# EAGLE library part MAX1771 (library 000001)
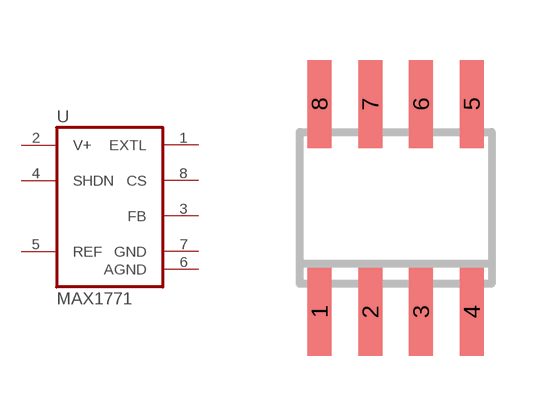
[diagram p111: symbol with the pads of SO-08; footprint SO-08]

Designator prefix -

## MAX1771CSA  [SO-08]
1  EXTL  sup
2  V+  in
3  FB  pas
4  SHDN  in
5  REF  in
6  AGND  in
7  GND  pwr
8  CS  pas

## Footprint SO-08 (pad centres in mm)
Small Outline Narrow Plastic Gull Wing 150-mil body, package type SN
smd 0.6 x 2.2: 1 -1.905,-2.6; 2 -0.635,-2.6; 3 0.635,-2.6; 4 1.905,-2.6; 5 1.905,2.6; 6 0.635,2.6; 7 -0.635,2.6; 8 -1.905,2.6